# EAGLE library part DAC7811IDGSR (library DAC7811IDGSR)
12-bit, single-channel, serial input multiplying DAC with 0.2us settling time Source: Datasheet <http://www.ti.com/lit/gpn/dac7811>
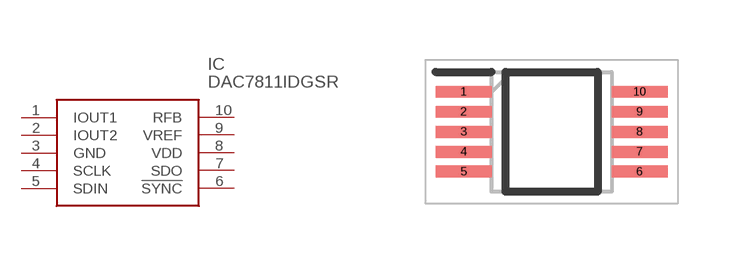
[diagram p0: symbol with the pads of SOP50P490X110-10N; footprint SOP50P490X110-10N]

Designator prefix IC

## DAC7811IDGSR (Description: 12-bit, single-channel, serial input multiplying DAC with 0.2us settling time; Height: 1.1mm; Manufacturer_Name: Texas Instruments; Manufacturer_Part_Number: DAC7811IDGSR; Mouser_Part_Number: 595-DAC7811IDGSR; Mouser_Price-Stock: https://www.mouser.co.uk/ProductDetail/Texas-Instruments/DAC7811IDGSR?qs=rNOSrj6uCs1lDhXFni4UFg%3D%3D)  [SOP50P490X110-10N]
1  IOUT1
2  IOUT2
3  GND
4  SCLK
5  SDIN
6  !SYNC
7  SDO
8  VDD
9  VREF
10  RFB

## Footprint SOP50P490X110-10N (pad centres in mm)
DGS0010A
smd 1.4 x 0.3: 1 -2.2,1; 2 -2.2,0.5; 3 -2.2,0; 4 -2.2,-0.5; 5 -2.2,-1; 6 2.2,-1; 7 2.2,-0.5; 8 2.2,0; 9 2.2,0.5; 10 2.2,1